# EAGLE library part STMPS2141MTR (library SchlapphutProjektLib)
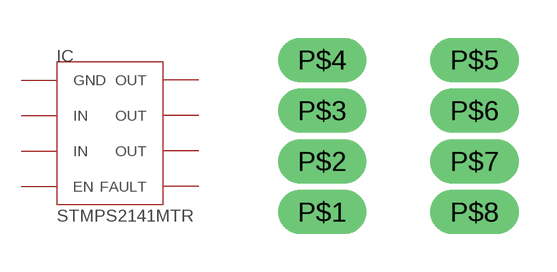
[diagram p1: symbol with the pads of STMPS2141MTR; footprint STMPS2141MTR]

Designator prefix IC

## STMPS2141MTR  [STMPS2141MTR]
P$1  EN
P$2  FAULT
P$3  GND
P$4  IN  in
P$5  IN  in
P$6  OUT  out
P$7  OUT  out
P$8  OUT  out

## Footprint STMPS2141MTR (pad centres in mm)
drill 0.6 long: P$1 -2.54,-1.27; P$2 -2.54,0; P$3 -2.54,1.27; P$4 -2.54,2.54; P$5 1.27,2.54; P$6 1.27,1.27; P$7 1.27,0; P$8 1.27,-1.27